# EAGLE library part 62403821622 (library Wurth_Connectors_WR-WTB)
WR-WTB 2.00 mm Male Dual Row Vertical Shrouded Header w. positive locking KIND PROPERTIES: Pitch:2 mm Gender:Male MATERIAL PROPERTIES: Insulator Material :PBT Insulator Flammability Rating:UL94 V-0 Color:White Contact Material:Copper Alloy Contact Plating:Tin Contact Type:Stamped GENERAL INFORMATION Operating Temperature:-25 up to +85 °C Compliance: RoHS Working Voltage:250V (AC) Withstanding Voltage:1000V (AC) Contact Resistance:20 mΩ RISO:1000 MΩ CERTIFICATION UL Approval:E323964 PACKAGING PROPERTIES Packaging:Tube <https://katalog.we-online.com/media/images/v2/o33358v209%20Family_WR-WTB_6240xx21622.jpg> Details see: https://katalog.we-online.com/en/em/WTB_2_00_MALE_DUAL_ROW_VERTICAL_SHROUDED_HEADER_W_POSITIVE_LOCKING_6240XX21622 Updated by Yingchun,Shan 2019-11-08 2019 (C) Würth Elektronik
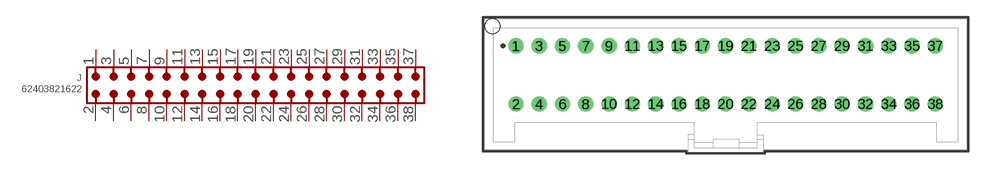
[diagram p104: symbol with the pads of 62403821622; footprint 62403821622]

Designator prefix J

## 62403821622 (CONTACT-RESISTANCE: 20mOhm; DATASHEET-URL: https://www.we-online.com/redexpert/spec/62403821622?ae; GENDER: Male; IR: 3A; L: 41.4mm; MOUNT: THT; PACKAGING: Tube; PART-NUMBER: 62403821622; PCB-CABLE-PANEL: PCB; PINS: 38; PITCH: 2mm; TYPE: Vertical; VALUE: 62403821622; WORKING-VOLTAGE: 250V(AC))  [62403821622]
1  1  pas
2  2  pas
3  3  pas
4  4  pas
5  5  pas
6  6  pas
7  7  pas
8  8  pas
9  9  pas
10  10  pas
11  11  pas
12  12  pas
13  13  pas
14  14  pas
15  15  pas
16  16  pas
17  17  pas
18  18  pas
19  19  pas
20  20  pas
21  21  pas
22  22  pas
23  23  pas
24  24  pas
25  25  pas
26  26  pas
27  27  pas
28  28  pas
29  29  pas
30  30  pas
31  31  pas
32  32  pas
33  33  pas
34  34  pas
35  35  pas
36  36  pas
37  37  pas
38  38  pas

## Footprint 62403821622 (pad centres in mm)
WR-WTB 2.00 mm Male Dual Row Vertical Shrouded Header w. positive locking,38 Pins
drill 0.8: 1 -18,3.3; 2 -18,-1.7; 3 -16,3.3; 4 -16,-1.7; 5 -14,3.3; 6 -14,-1.7; 7 -12,3.3; 8 -12,-1.7; 9 -10,3.3; 10 -10,-1.7; 11 -8,3.3; 12 -8,-1.7; 13 -6,3.3; 14 -6,-1.7; 15 -4,3.3; 16 -4,-1.7; 17 -2,3.3; 18 -2,-1.7; 19 0,3.3; 20 0,-1.7; 21 2,3.3; 22 2,-1.7; 23 4,3.3; 24 4,-1.7; 25 6,3.3; 26 6,-1.7; 27 8,3.3; 28 8,-1.7; 29 10,3.3; 30 10,-1.7; 31 12,3.3; 32 12,-1.7; 33 14,3.3; 34 14,-1.7; 35 16,3.3; 36 16,-1.7; 37 18,3.3; 38 18,-1.7
hole 1.3 at -20,5